# Altium schematic symbol library RF2-19A-T-00-50-G.SchLib: 1 symbol
Pins are listed as number, name and electrical type; pins without a type are passive.

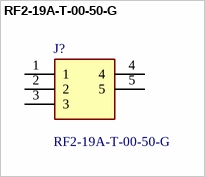
[diagram p0: symbol RF2-19A-T-00-50-G]

## RF2-19A-T-00-50-G
designator J?
Conn SMA 0Hz to 18GHz 50Ohm Solder ST Thru-Hole RCP Gold; Manufacturer_Name: Adam Tech; Geometry.Height: 9.6mm; Mouser Part Number: 737-RF219AT0050G; Mouser Price/Stock: https://www.mouser.co.uk/ProductDetail/Adam-Tech/RF2-19A-T-00-50-G?qs=HoCaDK9Nz5fMXe4fVjtozw%3D%3D; Manufacturer_Part_Number: RF2-19A-T-00-50-G; Datasheet Link: chrome-extension://efaidnbmnnnibpcajpcglclefindmkaj/https://www.mouser.it/datasheet/2/4/rf2_19a_t_00_50_g_data_sheet-3397228.pdf
footprint RF219AT0050G
pins: 1, 2, 3, 4, 5